# Altium footprint library PCB2.PcbLib: 14 footprints
Each footprint in its own frame and in the unit in brackets; x right, y up, seen from the top. Pads: shape width x height; smd on the part's side, far side on the other; paste and mask are expansions set on the pad; w line width, h text height; cw(c..) or ccw(c..) is an arc to the next point about the centre after c.
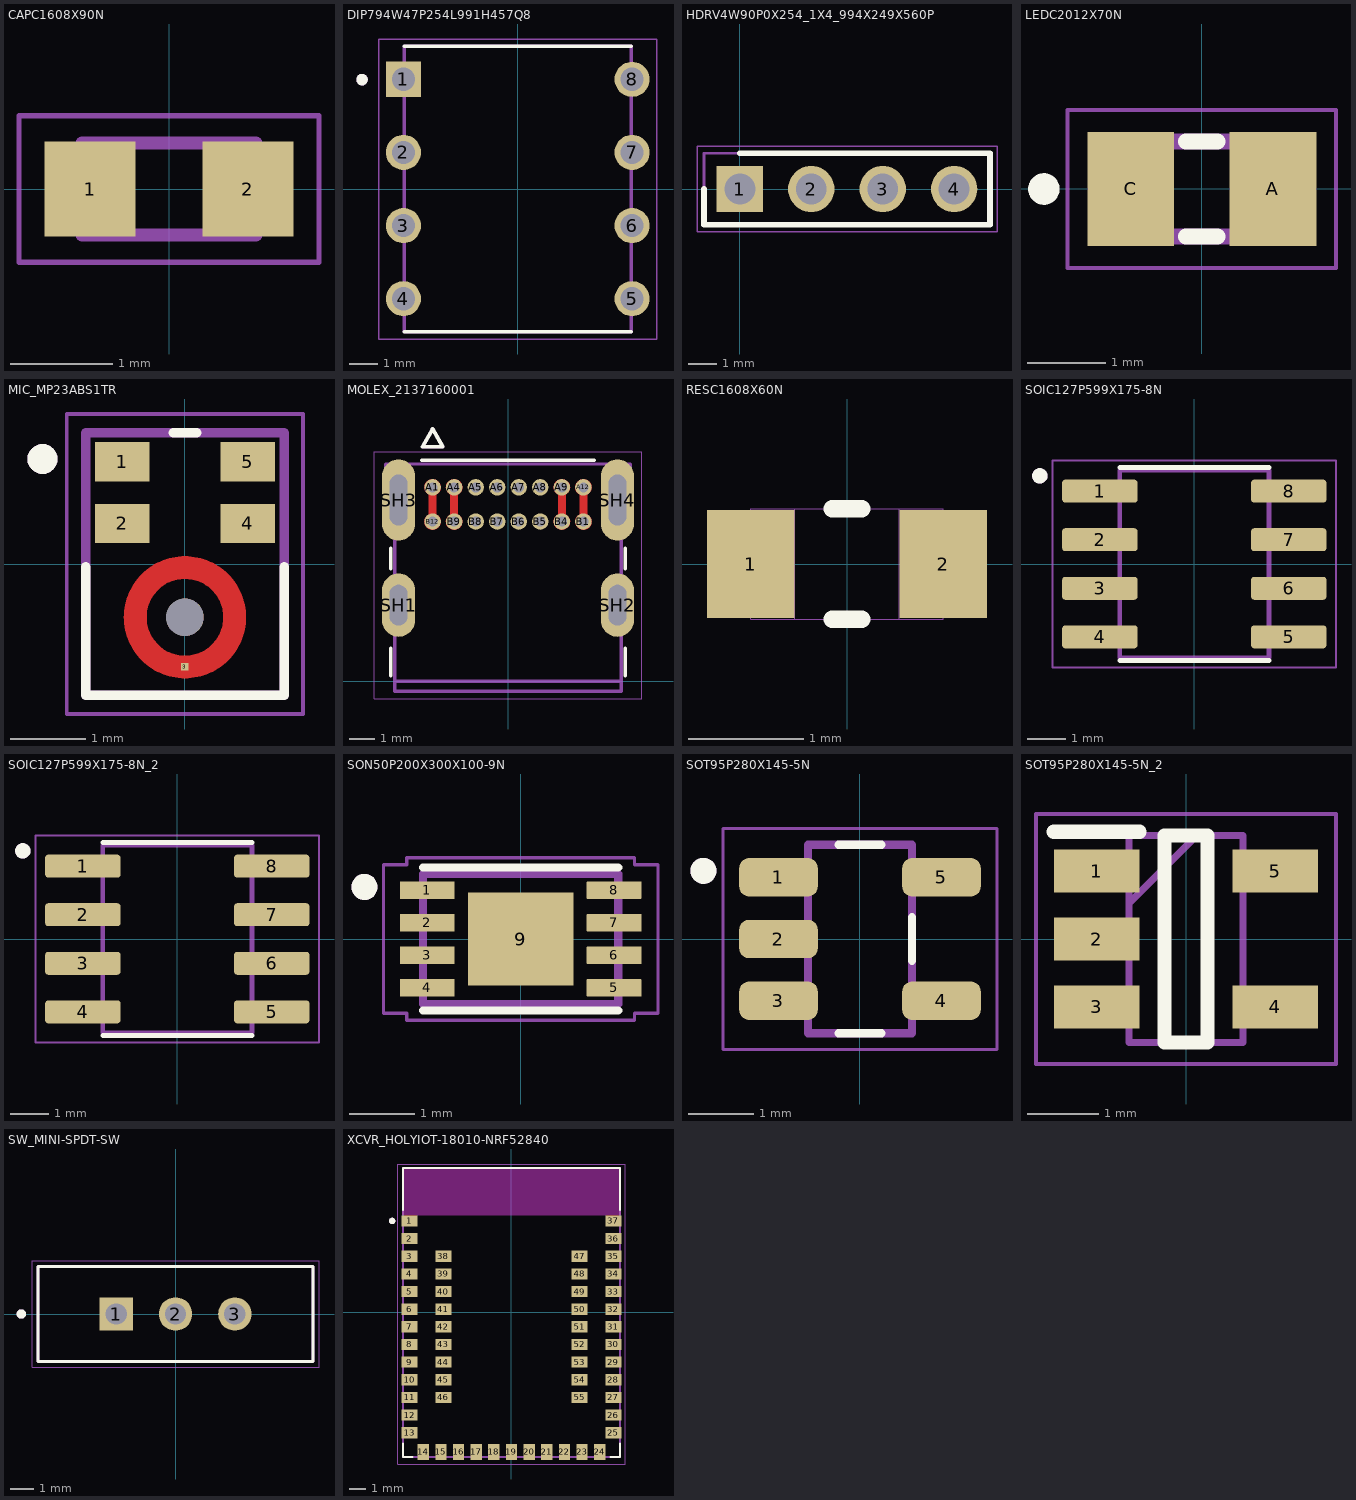
[diagram p0: the footprints below, top view; thin cyan lines are the x and y axes]

## CAPC1608X90N [mm]
pads (2):
  rect 0.89x0.93 smd: 1(-0.77,0) 2(0.77,0)
Mechanical 13:
  lines w0.127: -0.85,-0.45 -0.85,0.45 0.85,0.45 0.85,-0.45 -0.85,-0.45
Mechanical 15:
  lines w0.05: -1.465,-0.715 -1.465,0.715 1.465,0.715 1.465,-0.715 -1.465,-0.715
3D body "step_temp.STEP": height 0.9, standoff 0, extent -0.8,-0.4 0.8,0.4

## DIP794W47P254L991H457Q8 [mm]
pads (8):
  rect 1.22x1.22 / inner round 1.22 / far side rect 1.22x1.22 hole 0.81: 1(-3.97,3.81)
  round 1.22 hole 0.81: 2(-3.97,1.27) 3(-3.97,-1.27) 4(-3.97,-3.81) 5(3.97,-3.81) 6(3.97,-1.27) 7(3.97,1.27) 8(3.97,3.81)
Top Overlay:
  circle w0.2: c-5.41,3.8 r0.1
  lines w0.127: -3.94,-4.96 3.94,-4.96 ; -3.94,4.96 3.94,4.96
Mechanical 13:
  circle w0.2: c-5.41,3.8 r0.1
  lines w0.127: -3.94,-4.96 3.94,-4.96 3.94,4.96 -3.94,4.96 -3.94,-4.96
Mechanical 15:
  lines w0.05: -4.83,-5.21 4.83,-5.21 4.83,5.21 -4.83,5.21 -4.83,-5.21
3D body "step_temp.STEP": height 4.57, standoff -3.81, extent -3.91,-4.687 3.91,4.687

## HDRV4W90P0X254_1X4_994X249X560P [mm]
pads (4):
  rect 1.65x1.65 hole 1.1: 1(0,0)
  round 1.65 hole 1.1: 2(2.54,0) 3(5.08,0) 4(7.62,0)
Top Overlay:
  lines w0.2: -1.27,0 -1.27,-1.27 8.89,-1.27 8.89,1.27 0,1.27
Mechanical 13:
  lines w0.1: -1.27,-1.27 8.89,-1.27 8.89,1.27 -1.27,1.27 -1.27,-1.27
Mechanical 15:
  lines w0.05: -1.52,-1.52 9.14,-1.52 9.14,1.52 -1.52,1.52 -1.52,-1.52

## LEDC2012X70N [mm]
pads (2):
  rect 1.1x1.45 smd: A(0.9,0) C(-0.9,0)
Top Overlay:
  circle w0.2: c-2,0 r0.1
  lines w0.2: -0.2,-0.6 0.2,-0.6 ; -0.2,0.6 0.2,0.6
Mechanical 13:
  region: -0.5,-0.6 -1,-0.6 -1,0.6 -0.5,0.6
  region: 1,-0.6 0.5,-0.6 0.5,0.6 1,0.6
  lines w0.2: -1,-0.6 1,-0.6 1,0.6 -1,0.6 -1,-0.6
Mechanical 15:
  lines w0.05: -1.7,-1 1.7,-1 1.7,1 -1.7,1 -1.7,-1
3D body "step_temp.STEP": height 0.7, standoff 0, extent -1,-0.625 1,0.625

## MIC_MP23ABS1TR [mm]
height 1.08
pads (6):
  rect 0.725x0.522 smd paste-1: 1(-0.837,1.364) 2(-0.837,0.542) 4(0.837,0.542) 5(0.837,1.364)
  rect 0.1x0.1 smd paste-1 mask+0: 3(0,-1.372)
  round 0.5 hole 0.5 unplated mask+0.662: ""(0,-0.71)
Top Layer:
  region: 241 vertices and 0 holes, not listed, extent -0.813,-1.522 0.813,0.102
Top Overlay:
  circle w0.2: c-1.9,1.4 r0.1
  lines w0.127: -1.325,-0.039 -1.325,-1.75 1.325,-1.75 1.325,-0.039 ; -0.155,1.75 0.155,1.75
Top Paste:
  drawing of 6 lines, arcs and shapes, not listed
Mechanical 13:
  circle w0.2: c-1.9,1.4 r0.1
  lines w0.127: -1.325,-1.75 1.325,-1.75 1.325,1.75 -1.325,1.75 -1.325,-1.75
Mechanical 15:
  lines w0.05: -1.575,-2 1.575,-2 1.575,2 -1.575,2 -1.575,-2
3D body "step_temp.STEP": height 1.08, standoff 0, extent -1.325,-1.75 1.325,1.75

## MOLEX_2137160001 [mm]
height 3.36
pads (20):
  round 0.648 hole 0.4 mask+0.064: A1(-2.975,7.65) A4(-2.125,7.65) A5(-1.275,7.65) A6(-0.425,7.65) A7(0.425,7.65) A8(1.275,7.65) A9(2.125,7.65) A12(2.975,7.65) B1(2.975,6.3) B4(2.125,6.3) B5(1.275,6.3) B6(0.425,6.3) B7(-0.425,6.3) B8(-1.275,6.3) B9(-2.125,6.3) B12(-2.975,6.3)
  oval 1.3x2.5 hole 0.7 slot 1.6 at 90 deg mask+0.064: SH1(-4.32,3) SH2(4.32,3)
  oval 1.3x3.2 hole 0.7 slot 2 at 90 deg mask+0.064: SH3(-4.32,7.15) SH4(4.32,7.15)
Top Layer:
  region: 3.032,7.969 3.087,7.954 3.139,7.929 3.186,7.896 3.226,7.855 3.258,7.808 3.281,7.756 3.295,7.7 3.299,7.643 3.293,7.586 3.277,7.531 3.251,7.48 3.217,7.434 3.175,7.395 3.125,7.363 3.125,6.587 3.175,6.555 3.217,6.516 3.251,6.47 3.277,6.419 3.293,6.364 3.299,6.307 3.295,6.25 3.281,6.194 3.258,6.142 3.226,6.095 3.186,6.054 3.139,6.021 3.087,5.996 3.032,5.981 2.975,5.976 2.918,5.981 2.863,5.996 2.811,6.021 2.764,6.054 2.724,6.095 2.692,6.142 2.669,6.194 2.655,6.25 2.651,6.307 2.657,6.364 2.673,6.419 2.699,6.47 2.733,6.516 2.775,6.555 2.825,6.587 2.825,7.363 2.775,7.395 2.733,7.434 2.699,7.48 2.673,7.531 2.657,7.586 2.651,7.643 2.655,7.7 2.669,7.756 2.692,7.808 2.724,7.855 2.764,7.896 2.811,7.929 2.863,7.954 2.918,7.969 2.975,7.974
  region: 2.182,7.969 2.237,7.954 2.289,7.929 2.336,7.896 2.376,7.855 2.408,7.808 2.431,7.756 2.445,7.7 2.449,7.643 2.443,7.586 2.427,7.531 2.401,7.48 2.367,7.434 2.325,7.395 2.275,7.363 2.275,6.587 2.325,6.555 2.367,6.516 2.401,6.47 2.427,6.419 2.443,6.364 2.449,6.307 2.445,6.25 2.431,6.194 2.408,6.142 2.376,6.095 2.336,6.054 2.289,6.021 2.237,5.996 2.182,5.981 2.125,5.976 2.068,5.981 2.013,5.996 1.961,6.021 1.914,6.054 1.874,6.095 1.842,6.142 1.819,6.194 1.805,6.25 1.801,6.307 1.807,6.364 1.823,6.419 1.849,6.47 1.883,6.516 1.925,6.555 1.975,6.587 1.975,7.363 1.925,7.395 1.883,7.434 1.849,7.48 1.823,7.531 1.807,7.586 1.801,7.643 1.805,7.7 1.819,7.756 1.842,7.808 1.874,7.855 1.914,7.896 1.961,7.929 2.013,7.954 2.068,7.969 2.125,7.974
  region: -2.068,7.969 -2.013,7.954 -1.961,7.929 -1.914,7.896 -1.874,7.855 -1.842,7.808 -1.819,7.756 -1.805,7.7 -1.801,7.643 -1.807,7.586 -1.823,7.531 -1.849,7.48 -1.883,7.434 -1.925,7.395 -1.975,7.363 -1.975,6.587 -1.925,6.555 -1.883,6.516 -1.849,6.47 -1.823,6.419 -1.807,6.364 -1.801,6.307 -1.805,6.25 -1.819,6.194 -1.842,6.142 -1.874,6.095 -1.914,6.054 -1.961,6.021 -2.013,5.996 -2.068,5.981 -2.125,5.976 -2.182,5.981 -2.237,5.996 -2.289,6.021 -2.336,6.054 -2.376,6.095 -2.408,6.142 -2.431,6.194 -2.445,6.25 -2.449,6.307 -2.443,6.364 -2.427,6.419 -2.401,6.47 -2.367,6.516 -2.325,6.555 -2.275,6.587 -2.275,7.363 -2.325,7.395 -2.367,7.434 -2.401,7.48 -2.427,7.531 -2.443,7.586 -2.449,7.643 -2.445,7.7 -2.431,7.756 -2.408,7.808 -2.376,7.855 -2.336,7.896 -2.289,7.929 -2.237,7.954 -2.182,7.969 -2.125,7.974
  region: -2.918,7.969 -2.863,7.954 -2.811,7.929 -2.764,7.896 -2.724,7.855 -2.692,7.808 -2.669,7.756 -2.655,7.7 -2.651,7.643 -2.657,7.586 -2.673,7.531 -2.699,7.48 -2.733,7.434 -2.775,7.395 -2.825,7.363 -2.825,6.587 -2.775,6.555 -2.733,6.516 -2.699,6.47 -2.673,6.419 -2.657,6.364 -2.651,6.307 -2.655,6.25 -2.669,6.194 -2.692,6.142 -2.724,6.095 -2.764,6.054 -2.811,6.021 -2.863,5.996 -2.918,5.981 -2.975,5.976 -3.032,5.981 -3.087,5.996 -3.139,6.021 -3.186,6.054 -3.226,6.095 -3.258,6.142 -3.281,6.194 -3.295,6.25 -3.299,6.307 -3.293,6.364 -3.277,6.419 -3.251,6.47 -3.217,6.516 -3.175,6.555 -3.125,6.587 -3.125,7.363 -3.175,7.395 -3.217,7.434 -3.251,7.48 -3.277,7.531 -3.293,7.586 -3.299,7.643 -3.295,7.7 -3.281,7.756 -3.258,7.808 -3.226,7.855 -3.186,7.896 -3.139,7.929 -3.087,7.954 -3.032,7.969 -2.975,7.974
Top Overlay:
  lines w0.15: -4.625,0.225 -4.625,1.3 ; -4.625,4.45 -4.625,5.25 ; -3.4,8.72 3.4,8.72 ; 4.625,0.225 4.625,1.3 ; 4.625,4.45 4.625,5.25 ; -3.375,9.25 -2.975,9.95 -2.575,9.25 -3.375,9.25
Top Solder:
  drawing of 4 lines, arcs and shapes, not listed
Mechanical 13:
  lines w0.13: -2.975,9.95 -3.375,9.25 -2.575,9.25 ; 4.445,0 -4.475,0 ; -4.475,0 -4.475,-0.4 4.475,-0.4 4.475,6.17 4.82,6.17 4.82,8.57 -4.82,8.57 -4.82,6.17 -4.475,6.17 -4.475,0
Mechanical 15:
  lines w0.01: -5.27,-0.7 5.27,-0.7 5.27,9.05 -5.27,9.05 -5.27,-0.7

## RESC1608X60N [mil]
pads (2):
  rect 30x37 smd: 1(-33,0) 2(33,0)
Top Overlay:
  lines w6: -5,-19 5,-19 ; -5,19 5,19
Mechanical 13:
  lines w0: -18,-19 18,-19 ; -18,-19 -33,-19 -33,19 -18,19 ; -18,-19 -18,19 ; -18,19 18,19 ; 18,-19 33,-19 33,19 18,19 ; 18,-19 18,19
3D body "step_temp.STEP": height 21.65, standoff 0, extent -31.5,-15.75 31.5,15.75

## SOIC127P599X175-8N [mm]
pads (8):
  rrect25% 1.97x0.6 smd: 1(-2.47,1.905) 2(-2.47,0.635) 3(-2.47,-0.635) 4(-2.47,-1.905) 5(2.47,-1.905) 6(2.47,-0.635) 7(2.47,0.635) 8(2.47,1.905)
Top Overlay:
  circle w0.2: c-4.04,2.305 r0.1
  lines w0.127: -1.95,-2.525 1.95,-2.525 ; -1.95,2.525 1.95,2.525
Mechanical 13:
  circle w0.2: c-4.04,2.305 r0.1
  lines w0.127: -1.95,-2.453 -1.95,2.453 1.95,2.453 1.95,-2.453 -1.95,-2.453
Mechanical 15:
  lines w0.05: -3.705,-2.703 -3.705,2.703 3.705,2.703 3.705,-2.703 -3.705,-2.703
3D body "step_temp.STEP": height 1.75, standoff 0, extent -3,-2.45 3,2.45

## SOIC127P599X175-8N_2 [mm]
pads (8):
  rrect25% 1.97x0.6 smd: 1(-2.47,1.905) 2(-2.47,0.635) 3(-2.47,-0.635) 4(-2.47,-1.905) 5(2.47,-1.905) 6(2.47,-0.635) 7(2.47,0.635) 8(2.47,1.905)
Top Overlay:
  circle w0.2: c-4.04,2.305 r0.1
  lines w0.127: -1.95,-2.525 1.95,-2.525 ; -1.95,2.525 1.95,2.525
Mechanical 13:
  circle w0.2: c-4.04,2.305 r0.1
  lines w0.127: -1.95,-2.453 -1.95,2.453 1.95,2.453 1.95,-2.453 -1.95,-2.453
Mechanical 15:
  lines w0.05: -3.705,-2.703 -3.705,2.703 3.705,2.703 3.705,-2.703 -3.705,-2.703
3D body "step_temp.STEP": height 1.75, standoff 0, extent -3,-2.45 3,2.45

## SON50P200X300X100-9N [mm]
pads (9):
  rrect7% 0.84x0.27 smd: 1(-1.435,0.75) 2(-1.435,0.25) 3(-1.435,-0.25) 4(-1.435,-0.75) 5(1.435,-0.75) 6(1.435,-0.25) 7(1.435,0.25) 8(1.435,0.75)
  rect 1.625x1.425 smd paste-2: 9(0,0)
Top Overlay:
  circle w0.2: c-2.4,0.8 r0.1
  lines w0.127: -1.5,-1.099 1.5,-1.099 ; -1.5,1.099 1.5,1.099
Top Paste:
  region: -0.075,-0.49 -0.665,-0.49 -0.665,0.49 -0.075,0.49
  region: 0.665,-0.49 0.075,-0.49 0.075,0.49 0.665,0.49
Mechanical 13:
  circle w0.2: c-2.4,0.8 r0.1
  lines w0.127: -1.5,-1 -1.5,1 1.5,1 1.5,-1 -1.5,-1
Mechanical 15:
  lines w0.05: -2.11,-1.14 -1.75,-1.14 -1.75,-1.25 1.75,-1.25 1.75,-1.14 2.11,-1.14 2.11,1.14 1.75,1.14 1.75,1.25 -1.75,1.25 -1.75,1.14 -2.11,1.14 -2.11,-1.14
3D body "step_temp.STEP": height 1, standoff 0, extent -1.5,-1 1.5,1

## SOT95P280X145-5N [mm]
pads (5):
  rrect50% 1.21x0.59 smd: 1(-1.255,0.95) 2(-1.255,0) 3(-1.255,-0.95) 4(1.255,-0.95) 5(1.255,0.95)
Top Overlay:
  circle w0.2: c-2.41,1.05 r0.1
  lines w0.127: -0.33,-1.45 0.33,-1.45 ; -0.33,1.45 0.33,1.45 ; 0.8,-0.335 0.8,0.335
Mechanical 13:
  circle w0.2: c-2.41,1.05 r0.1
  lines w0.127: -0.8,-1.45 0.8,-1.45 0.8,1.45 -0.8,1.45 -0.8,-1.45
Mechanical 15:
  lines w0.05: -2.11,-1.7 -2.11,1.7 2.11,1.7 2.11,-1.7 -2.11,-1.7
3D body "step_temp.STEP": height 1.45, standoff 0, extent -1.4,-1.45 1.4,1.45

## SOT95P280X145-5N_2 [mm]
pads (5):
  rect 1.2x0.6 smd: 1(-1.25,0.95) 2(-1.25,0) 3(-1.25,-0.95) 4(1.25,-0.95) 5(1.25,0.95)
Top Overlay:
  lines w0.2: -1.85,1.5 -0.65,1.5 ; -0.3,-1.45 -0.3,1.45 0.3,1.45 0.3,-1.45 -0.3,-1.45
Mechanical 13:
  lines w0.1: -0.8,0.5 0.15,1.45 ; -0.8,-1.45 -0.8,1.45 0.8,1.45 0.8,-1.45 -0.8,-1.45
Mechanical 15:
  lines w0.05: -2.1,-1.75 -2.1,1.75 2.1,1.75 2.1,-1.75 -2.1,-1.75

## SW_MINI-SPDT-SW [mm]
pads (3):
  rect 1.408x1.408 hole 0.9: 1(-2.5,0)
  round 1.408 hole 0.9: 2(0,0) 3(2.5,0)
Top Overlay:
  circle w0.2: c-6.5,0 r0.1
  lines w0.127: -5.8,-2 5.8,-2 5.8,2 -5.8,2 -5.8,-2
Mechanical 13:
  circle w0.2: c-6.5,0 r0.1
  lines w0.127: -5.8,-2 5.8,-2 5.8,2 -5.8,2 -5.8,-2
Mechanical 15:
  lines w0.05: -6.05,-2.25 6.05,-2.25 6.05,2.25 -6.05,2.25 -6.05,-2.25
3D body "MINI-SPDT-SW--3DModel-STEP-56544.STEP": height 7.4, standoff -4.7, extent -5.8,-2.032 5.8,1.968

## XCVR_HOLYIOT-18010-NRF52840 [mm]
pads (55):
  rect 1x0.7 smd: 1(-6.35,5.7) 2(-6.35,4.6) 3(-6.35,3.5) 4(-6.35,2.4) 5(-6.35,1.3) 6(-6.35,0.2) 7(-6.35,-0.9) 8(-6.35,-2) 9(-6.35,-3.1) 10(-6.35,-4.2) 11(-6.35,-5.3) 12(-6.35,-6.4) 13(-6.35,-7.5) 25(6.35,-7.5) 26(6.35,-6.4) 27(6.35,-5.3) 28(6.35,-4.2) 29(6.35,-3.1) 30(6.35,-2) 31(6.35,-0.9) 32(6.35,0.2) 33(6.35,1.3) 34(6.35,2.4) 35(6.35,3.5) 36(6.35,4.6) 37(6.35,5.7) 38(-4.25,3.5) 39(-4.25,2.4) 40(-4.25,1.3) 41(-4.25,0.2) 42(-4.25,-0.9) 43(-4.25,-2) 44(-4.25,-3.1) 45(-4.25,-4.2) 46(-4.25,-5.3) 47(4.25,3.5) 48(4.25,2.4) 49(4.25,1.3) 50(4.25,0.2) 51(4.25,-0.9) 52(4.25,-2) 53(4.25,-3.1) 54(4.25,-4.2) 55(4.25,-5.3)
  rect 0.7x1 smd: 14(-5.5,-8.7) 15(-4.4,-8.7) 16(-3.3,-8.7) 17(-2.2,-8.7) 18(-1.1,-8.7) 19(0,-8.7) 20(1.1,-8.7) 21(2.2,-8.7) 22(3.3,-8.7) 23(4.4,-8.7) 24(5.5,-8.7)
Top Overlay:
  circle w0.2: c-7.436,5.7 r0.1
  lines w0.127: -6.75,-8.17 -6.75,-9 -6.17,-9 ; -6.75,6.37 -6.75,9 6.75,9 6.75,6.37 ; 6.17,-9 6.75,-9 6.75,-8.17
Keep-Out Layer:
  region: 6.8,6.05 -6.8,6.05 -6.8,9 6.8,9
  region: 6.8,6.05 -6.8,6.05 -6.8,9 6.8,9
Mechanical 13:
  circle w0.2: c-7.436,5.7 r0.1
  lines w0.127: -6.75,-9 -6.75,9 6.75,9 6.75,-9 -6.75,-9
Mechanical 15:
  lines w0.05: -7.1,-9.45 -7.1,9.25 7.1,9.25 7.1,-9.45 -7.1,-9.45